# Altium footprint library DIP762W60P254L730H450Q6N.PcbLib: 1 footprints
Each footprint in its own frame and in the unit in brackets; x right, y up, seen from the top. Pads: shape width x height; smd on the part's side, far side on the other; paste and mask are expansions set on the pad; w line width, h text height; cw(c..) or ccw(c..) is an arc to the next point about the centre after c.
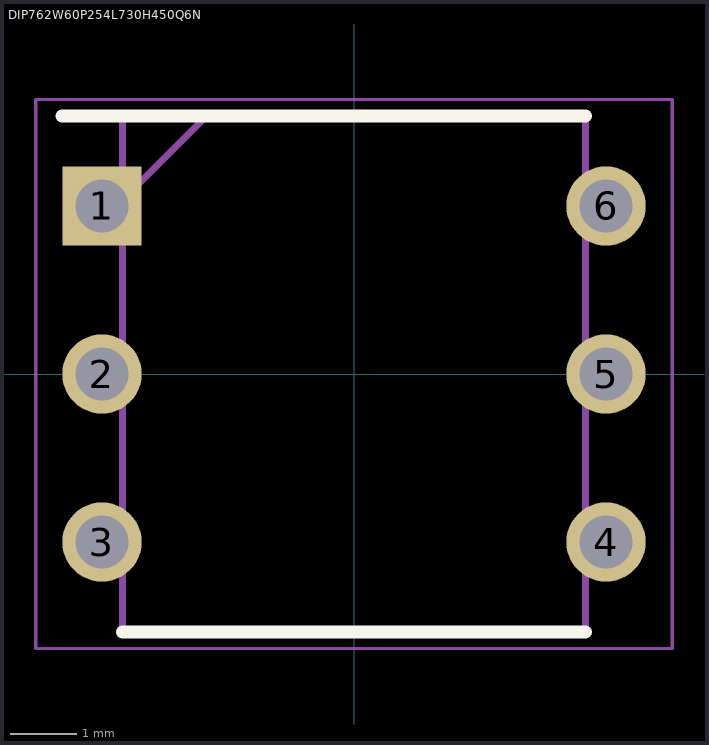
[diagram p0: the footprint, top view; thin cyan lines are the x and y axes]

## DIP762W60P254L730H450Q6N [mm]
pads (6):
  rect 1.2x1.2 / inner round 1.2 / far side rect 1.2x1.2 hole 0.8: 1(-3.81,2.54)
  round 1.2 hole 0.8: 2(-3.81,0) 3(-3.81,-2.54) 4(3.81,-2.54) 5(3.81,0) 6(3.81,2.54)
Top Overlay:
  lines w0.2: -4.41,3.9 3.5,3.9 ; -3.5,-3.9 3.5,-3.9
Mechanical 15:
  lines w0.1: -3.5,2.63 -2.23,3.9 ; -3.5,-3.9 3.5,-3.9 3.5,3.9 -3.5,3.9 -3.5,-3.9
Mechanical 20:
  lines w0.05: -4.81,-4.15 4.81,-4.15 4.81,4.15 -4.81,4.15 -4.81,-4.15